# Altium footprint library PSOF_7_LR.PcbLib: 1 footprints
Each footprint in its own frame and in the unit in brackets; x right, y up, seen from the top. Pads: shape width x height; smd on the part's side, far side on the other; paste and mask are expansions set on the pad; w line width, h text height; cw(c..) or ccw(c..) is an arc to the next point about the centre after c.
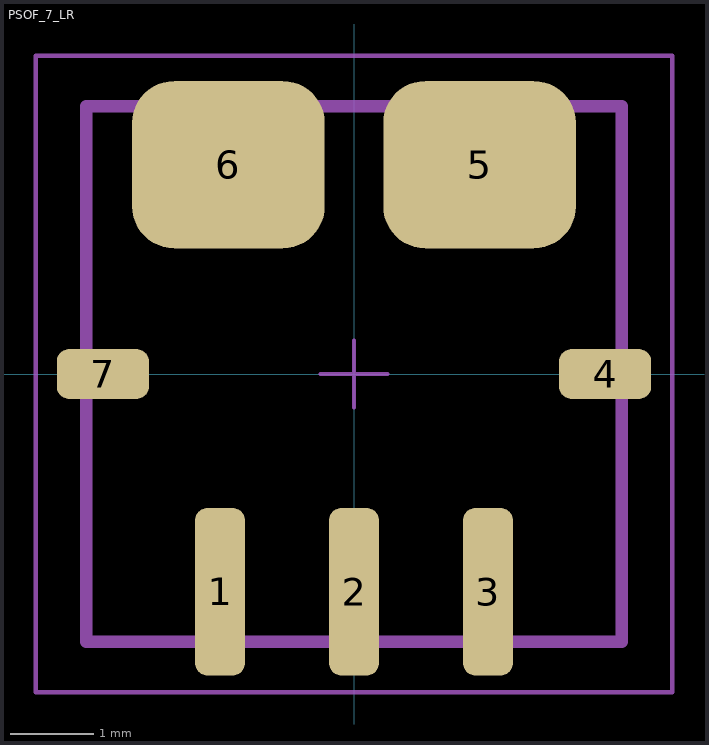
[diagram p0: the footprint, top view; thin cyan lines are the x and y axes]

## PSOF_7_LR [mm]
pads (7):
  rrect50% 0.6x2 smd mask+0.05: 1(-1.6,-2.6) 2(0,-2.6) 3(1.6,-2.6)
  rrect50% 1.1x0.6 smd mask+0.05: 4(3,0) 7(-3,0)
  rrect50% 2.3x2 smd mask+0.05: 5(1.5,2.5) 6(-1.5,2.5)
Top Assembly:
  lines w0.15: -3.2,-3.2 -3.2,3.2 3.2,3.2 3.2,-3.2 -3.2,-3.2
Top Courtyard:
  lines w0.05: -0.4,0 0.4,0 ; 0,-0.4 0,0.4 ; -3.8,-3.8 -3.8,3.8 3.8,3.8 3.8,-3.8 -3.8,-3.8
3D body "LR.STEP": height 1.5, standoff 0, extent -3.2,-3.2 3.2,3.2